# EAGLE library part 74HC02D,653 (library edrtech_lib)
Quad 2-input NOR gate Check availability <https://pricing.snapeda.com/parts/74HC02D%2C653/Nexperia%20USA%20Inc./view-part?ref=eda>
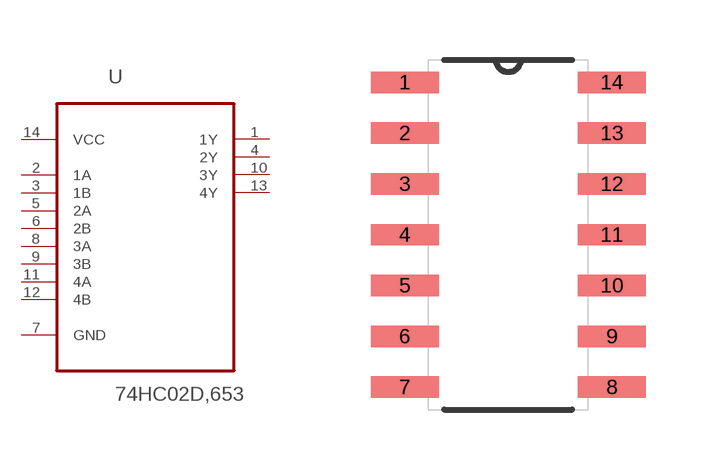
[diagram p9: symbol with the pads of SOIC127P600X175-14N; footprint SOIC127P600X175-14N]

Designator prefix U

## 74HC02D,653 (AVAILABILITY: In Stock; DESCRIPTION: NOR Gate IC 4 Channel - 14-SO; MF: Nexperia USA Inc.; MP: 74HC02D,653; PACKAGE: None; PRICE: None; PURCHASE-URL: https://pricing.snapeda.com/search/part/74HC02D,653/?ref=eda)  [SOIC127P600X175-14N]
1  1Y  out
2  1A  in
3  1B  in
4  2Y  out
5  2A  in
6  2B  in
7  GND  pas
8  3A  in
9  3B  in
10  3Y  out
11  4A  in
12  4B  in
13  4Y  out
14  VCC  pwr

## Footprint SOIC127P600X175-14N (pad centres in mm)
smd 1.702 x 0.533: 1 -2.591,3.81; 2 -2.591,2.54; 3 -2.591,1.27; 4 -2.591,0; 5 -2.591,-1.27; 6 -2.591,-2.54; 7 -2.591,-3.81; 8 2.591,-3.81; 9 2.591,-2.54; 10 2.591,-1.27; 11 2.591,0; 12 2.591,1.27; 13 2.591,2.54; 14 2.591,3.81